# EAGLE library part MEGA169P (library Jim)
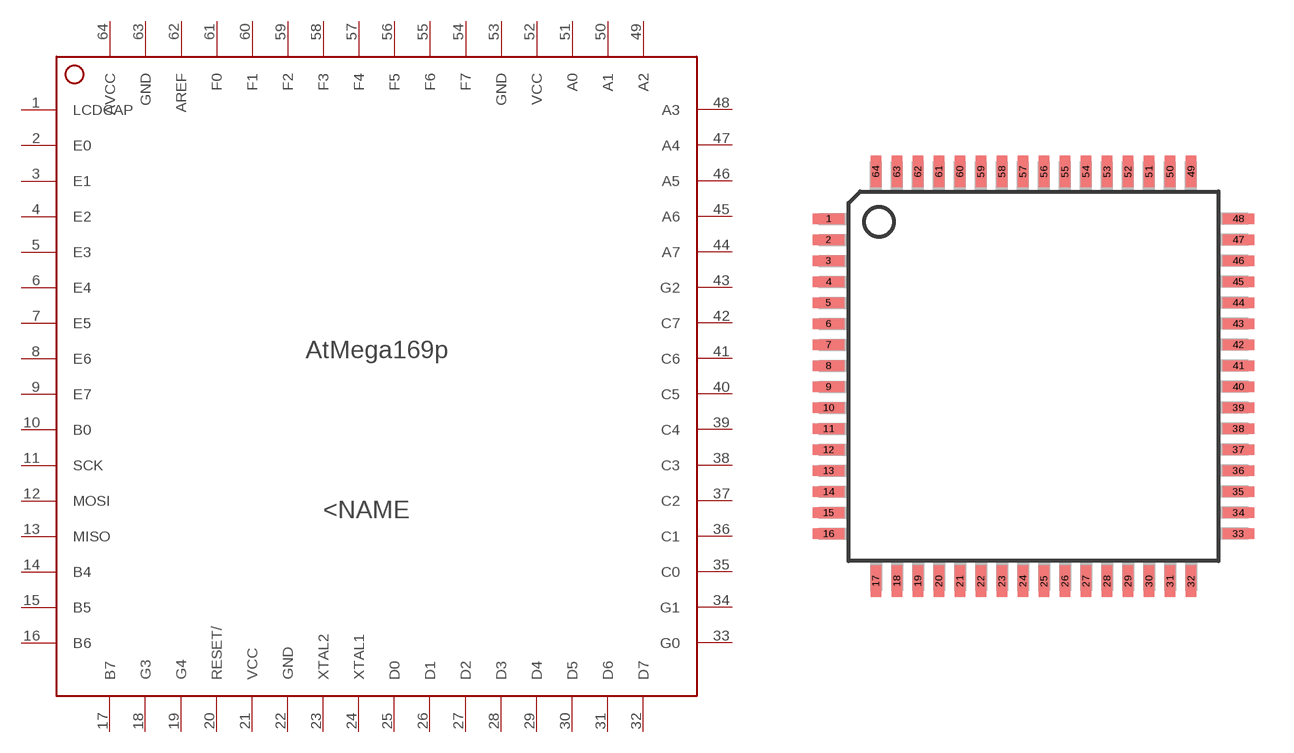
[diagram p14: symbol with the pads of TQFP64; footprint TQFP64]

Designator prefix -

## MEGA169P  [TQFP64]
1  LCDCAP
2  E0
3  E1
4  E2
5  E3
6  E4
7  E5
8  E6
9  E7
10  B0
11  SCK
12  MOSI
13  MISO
14  B4
15  B5
16  B6
17  B7
18  G3
19  G4
20  RESET/
21  VCC  pwr
22  GND  pwr
23  XTAL2
24  XTAL1
25  D0
26  D1
27  D2
28  D3
29  D4
30  D5
31  D6
32  D7
33  G0
34  G1
35  C0
36  C1
37  C2
38  C3
39  C4
40  C5
41  C6
42  C7
43  G2
44  A7
45  A6
46  A5
47  A4
48  A3
49  A2
50  A1
51  A0
52  VCC  pwr
53  GND  pwr
54  F7
55  F6
56  F5
57  F4
58  F3
59  F2
60  F1
61  F0
62  AREF  pwr
63  GND  pwr
64  AVCC  pwr

## Footprint TQFP64 (pad centres in mm)
Thin Plasic Quad Flat Package Updated from atml.lbr 17.01.2005 alf@cadsoft.de
smd 1.194 x 0.4: 1 -7.8,6; 2 -7.8,5.2; 3 -7.8,4.4; 4 -7.8,3.6; 5 -7.8,2.8; 6 -7.8,2; 7 -7.8,1.2; 8 -7.8,0.4; 9 -7.8,-0.4; 10 -7.8,-1.2; 11 -7.8,-2; 12 -7.8,-2.8; 13 -7.8,-3.6; 14 -7.8,-4.4; 15 -7.8,-5.2; 16 -7.8,-6; 33 7.8,-6; 34 7.8,-5.2; 35 7.8,-4.4; 36 7.8,-3.6; 37 7.8,-2.8; 38 7.8,-2; 39 7.8,-1.2; 40 7.8,-0.4; 41 7.8,0.4; 42 7.8,1.2; 43 7.8,2; 44 7.8,2.8; 45 7.8,3.6; 46 7.8,4.4; 47 7.8,5.2; 48 7.8,6
smd 0.4 x 1.194: 17 -6,-7.8; 18 -5.2,-7.8; 19 -4.4,-7.8; 20 -3.6,-7.8; 21 -2.8,-7.8; 22 -2,-7.8; 23 -1.2,-7.8; 24 -0.4,-7.8; 25 0.4,-7.8; 26 1.2,-7.8; 27 2,-7.8; 28 2.8,-7.8; 29 3.6,-7.8; 30 4.4,-7.8; 31 5.2,-7.8; 32 6,-7.8; 49 6,7.8; 50 5.2,7.8; 51 4.4,7.8; 52 3.6,7.8; 53 2.8,7.8; 54 2,7.8; 55 1.2,7.8; 56 0.4,7.8; 57 -0.4,7.8; 58 -1.2,7.8; 59 -2,7.8; 60 -2.8,7.8; 61 -3.6,7.8; 62 -4.4,7.8; 63 -5.2,7.8; 64 -6,7.8